# EAGLE library part MSP430F5528IRGC (library aurigaBot)
MSP430F5528 MCU in QFN64 package
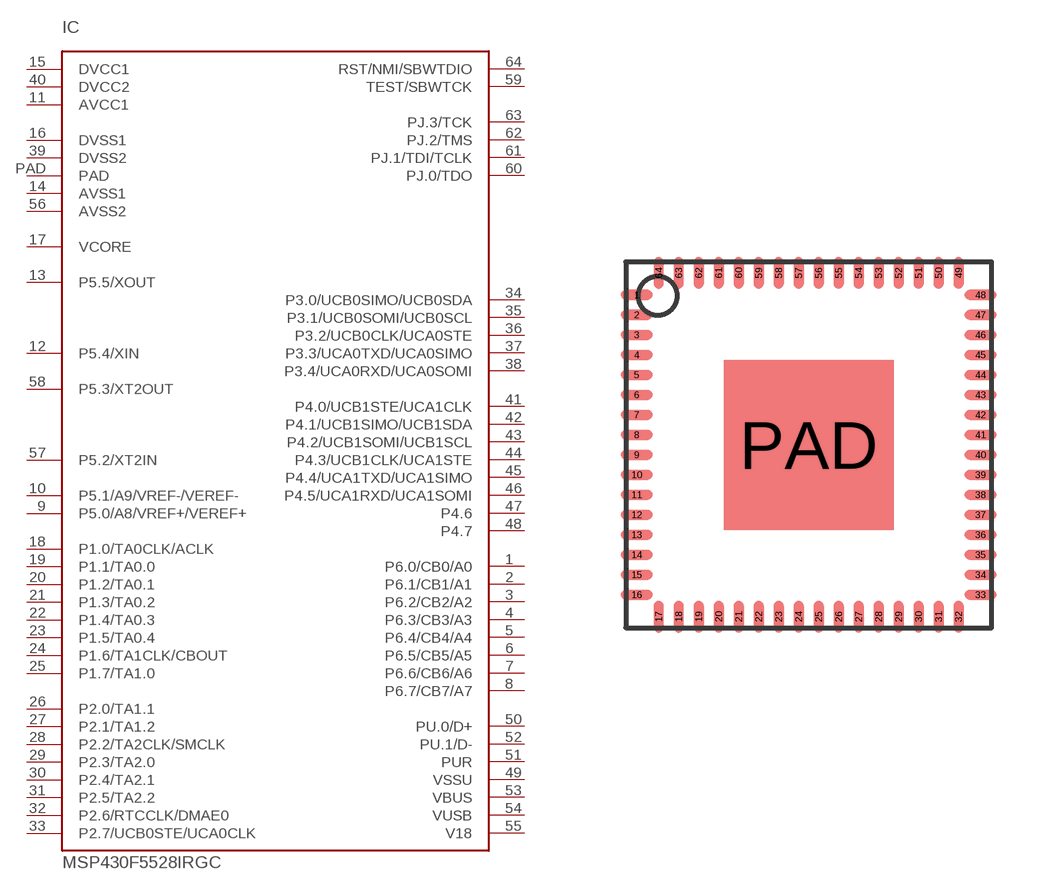
[diagram p0: symbol with the pads of QFN68; footprint QFN68]

Designator prefix IC

## MSP430F5528IRGC  [QFN68]
1  P6.0/CB0/A0
2  P6.1/CB1/A1
3  P6.2/CB2/A2
4  P6.3/CB3/A3
5  P6.4/CB4/A4
6  P6.5/CB5/A5
7  P6.6/CB6/A6
8  P6.7/CB7/A7
9  P5.0/A8/VREF+/VEREF+
10  P5.1/A9/VREF-/VEREF-
11  AVCC1  pwr
12  P5.4/XIN
13  P5.5/XOUT
14  AVSS1  pwr
15  DVCC1  pwr
16  DVSS1  pwr
17  VCORE  out
18  P1.0/TA0CLK/ACLK
19  P1.1/TA0.0
20  P1.2/TA0.1
21  P1.3/TA0.2
22  P1.4/TA0.3
23  P1.5/TA0.4
24  P1.6/TA1CLK/CBOUT
25  P1.7/TA1.0
26  P2.0/TA1.1
27  P2.1/TA1.2
28  P2.2/TA2CLK/SMCLK
29  P2.3/TA2.0
30  P2.4/TA2.1
31  P2.5/TA2.2
32  P2.6/RTCCLK/DMAE0
33  P2.7/UCB0STE/UCA0CLK
34  P3.0/UCB0SIMO/UCB0SDA
35  P3.1/UCB0SOMI/UCB0SCL
36  P3.2/UCB0CLK/UCA0STE
37  P3.3/UCA0TXD/UCA0SIMO
38  P3.4/UCA0RXD/UCA0SOMI
39  DVSS2  pwr
40  DVCC2  pwr
41  P4.0/UCB1STE/UCA1CLK
42  P4.1/UCB1SIMO/UCB1SDA
43  P4.2/UCB1SOMI/UCB1SCL
44  P4.3/UCB1CLK/UCA1STE
45  P4.4/UCA1TXD/UCA1SIMO
46  P4.5/UCA1RXD/UCA1SOMI
47  P4.6
48  P4.7
49  VSSU
50  PU.0/D+
51  PUR
52  PU.1/D-
53  VBUS
54  VUSB
55  V18
56  AVSS2  pwr
57  P5.2/XT2IN
58  P5.3/XT2OUT
59  TEST/SBWTCK
60  PJ.0/TDO
61  PJ.1/TDI/TCLK
62  PJ.2/TMS
63  PJ.3/TCK
64  RST/NMI/SBWTDIO
PAD  PAD  pwr

## Footprint QFN68 (pad centres in mm)
smd 0.8 x 0.25: 1 -4.3,3.75; 2 -4.3,3.25; 3 -4.3,2.75; 4 -4.3,2.25; 5 -4.3,1.75; 6 -4.3,1.25; 7 -4.3,0.75; 8 -4.3,0.25; 9 -4.3,-0.25; 10 -4.3,-0.75; 11 -4.3,-1.25; 12 -4.3,-1.75; 13 -4.3,-2.25; 14 -4.3,-2.75; 15 -4.3,-3.25; 16 -4.3,-3.75; 33 4.3,-3.75; 34 4.3,-3.25; 35 4.3,-2.75; 36 4.3,-2.25; 37 4.3,-1.75; 38 4.3,-1.25; 39 4.3,-0.75; 40 4.3,-0.25; 41 4.3,0.25; 42 4.3,0.75; 43 4.3,1.25; 44 4.3,1.75; 45 4.3,2.25; 46 4.3,2.75; 47 4.3,3.25; 48 4.3,3.75
smd 0.25 x 0.8: 17 -3.75,-4.3; 18 -3.25,-4.3; 19 -2.75,-4.3; 20 -2.25,-4.3; 21 -1.75,-4.3; 22 -1.25,-4.3; 23 -0.75,-4.3; 24 -0.25,-4.3; 25 0.25,-4.3; 26 0.75,-4.3; 27 1.25,-4.3; 28 1.75,-4.3; 29 2.25,-4.3; 30 2.75,-4.3; 31 3.25,-4.3; 32 3.75,-4.3; 49 3.75,4.3; 50 3.25,4.3; 51 2.75,4.3; 52 2.25,4.3; 53 1.75,4.3; 54 1.25,4.3; 55 0.75,4.3; 56 0.25,4.3; 57 -0.25,4.3; 58 -0.75,4.3; 59 -1.25,4.3; 60 -1.75,4.3; 61 -2.25,4.3; 62 -2.75,4.3; 63 -3.25,4.3; 64 -3.75,4.3
smd 4.25 x 4.25: PAD 0,0